# Altium integrated library 3SPC090F.IntLib: 1 symbol
Pins are listed as number, name and electrical type; pins without a type are passive.

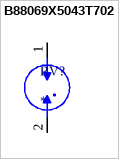
[diagram p0: symbol B88069X5043T702]

## B88069X5043T702
designator RV?
Gas Discharge Tube 90 V 20000A (20kA) Â±20% 2 Pole Surface Mount; MF: EPCOS; MP: B88069X5043T702; SnapEDA_Link: https://www.snapeda.com/parts/B88069X5043T702/EPCOS/view-part/?ref=snap; Package: None; Value: *; Check_prices: https://www.snapeda.com/parts/B88069X5043T702/EPCOS/view-part/?ref=eda
footprint MOV_B88069X5043T702
pins: 1, 2